# EAGLE library part MCP3002-I/SN (library MCP3002-I_SN)
Check prices <https://pricing.snapeda.com/parts/MCP3002-I/SN/Microchip/view-part?ref=eda>
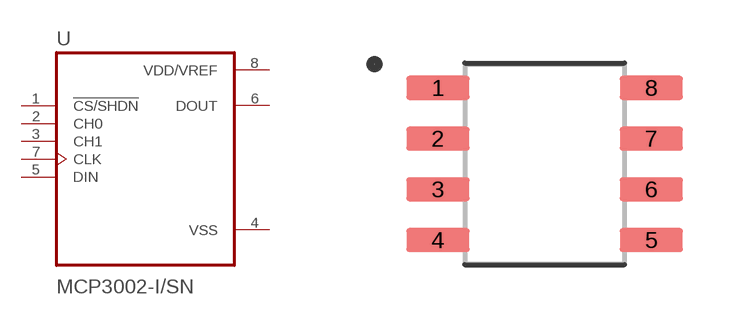
[diagram p0: symbol with the pads of SOIC127P599X175-8N; footprint SOIC127P599X175-8N]

Designator prefix -

## MCP3002-I/SN (Availability: In Stock; Description: 10 Bit Analog to Digital Converter 1, 2 Input 1 SAR 8-SOIC; MF: Microchip; MP: MCP3002-I/SN; Package: SOIC-8 Microchip; Price: None; Purchase-URL: https://pricing.snapeda.com/search/part/MCP3002-I/SN/?ref=eda)  [SOIC127P599X175-8N]
1  !CS/SHDN  in
2  CH0  in
3  CH1  in
4  VSS  pwr
5  DIN  in
6  DOUT  out
7  CLK  in
8  VDD/VREF  pwr

## Footprint SOIC127P599X175-8N (pad centres in mm)
smd 1.58 x 0.6: 1 -2.67,1.905; 2 -2.67,0.635; 3 -2.67,-0.635; 4 -2.67,-1.905; 5 2.67,-1.905; 6 2.67,-0.635; 7 2.67,0.635; 8 2.67,1.905